# EAGLE library part RJ45 (library PowerTechLIB2)
PowerTech RJ45 Connector With LEDs RJ45 socket with lamp Used in EthDuino
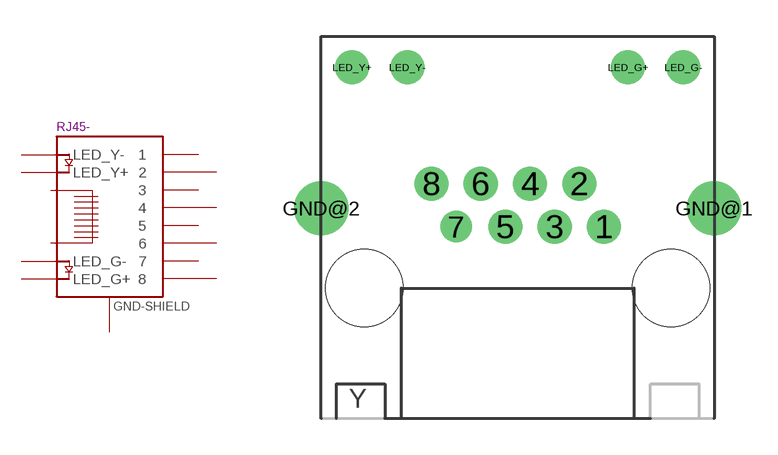
[diagram p3: symbol with the pads of RJ45; footprint RJ45]

Designator prefix RJ45-

## RJ45  [RJ45]
1  1
2  2
3  3
4  4
5  5
6  6
7  7
8  8
GND@1  GND  sup
GND@2  GND  sup
LED_G+  LED_G+  sup
LED_G-  LED_G-  sup
LED_Y+  LED_Y+  sup
LED_Y-  LED_Y-  sup

## Footprint RJ45 (pad centres in mm)
drill 0.9: 1 3.57,0; 2 2.55,1.78; 3 1.53,0; 4 0.51,1.78; 5 -0.51,0; 6 -1.53,1.78; 8 -3.57,1.78; LED_G+ 4.57,6.59; LED_G- 6.86,6.59; LED_Y+ -6.86,6.59; LED_Y- -4.57,6.59
drill 0.8: 7 -2.55,0
drill 1.5 pad 2: GND@1 8.13,0.76; GND@2 -8.13,0.76
hole 3.2 at -6.35,-2.54
hole 3.2 at 6.35,-2.54